# EAGLE library part M20-8760542 (library OUTech)
PINHEADER 2x5 2.54mm Source: Datasheet <https://cdn.harwin.com/pdfs/M20-876.pdf>
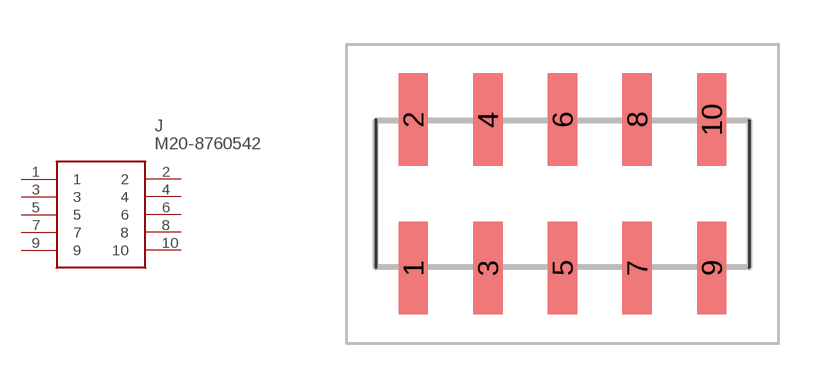
[diagram p4: symbol with the pads of M208760542; footprint M208760542]

Designator prefix J

## M20-8760542 (ALLIED_NUMBER: R1052685; ALLIED_PRICE-STOCK: https://www.alliedelec.com/harwin-m20-8760542/R1052685/; DESCRIPTION: M20 Header, Smt, Dil, Vertical, 5+5 W HARWIN M20 Series, 2.54mm Pitch 10 Way 2 Row Straight Pin Header, Surface Mount, Solder Termination; HEIGHT: 8mm; MANUFACTURER_NAME: HARWIN; MANUFACTURER_PART_NUMBER: M20-8760542; MOUSER_PART_NUMBER: 855-M20-8760542; MOUSER_PRICE-STOCK: https://www.mouser.com/Search/Refine.aspx?Keyword=855-M20-8760542; RS_PART_NUMBER: 6812893P; RS_PRICE-STOCK: http://uk.rs-online.com/web/p/products/6812893P)  [M208760542]
1  1
2  2
3  3
4  4
5  5
6  6
7  7
8  8
9  9
10  10

## Footprint M208760542 (pad centres in mm)
M20-8760542
smd 1 x 3.15: 1 -5.08,-2.525; 2 -5.08,2.525; 3 -2.54,-2.525; 4 -2.54,2.525; 5 0,-2.525; 6 0,2.525; 7 2.54,-2.525; 8 2.54,2.525; 9 5.08,-2.525; 10 5.08,2.525